# Altium schematic symbol library MX34040NF2.SchLib: 1 symbol
Pins are listed as number, name and electrical type; pins without a type are passive.

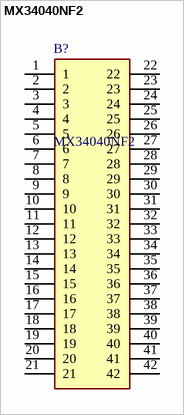
[diagram p0: symbol MX34040NF2]

## MX34040NF2
designator B?
Compact non-waterproof automotive connector, High-density, ECU, switches, and sensors, 40 pos. Right angle Pin header; Manufacturer_Name: JAE; Geometry.Height: 15mm; Mouser Part Number: 656-MX34040NF2; Mouser Price/Stock: https://www.mouser.co.uk/ProductDetail/JAE-Electronics/MX34040NF2?qs=e1Y2jJE%2FU%252BvJVmbSaTO13w%3D%3D; Manufacturer_Part_Number: MX34040NF2; Datasheet Link: https://www.jae.com/direct/topics/topics_file_download/topics_id=64950&ext_no=06&_lang=en&v=
footprint MX34040NF2
pins: 1, 2, 3, 4, 5, 6, 7, 8, 9, 10, 11, 12, 13, 14, 15, 16, 17, 18, 19, 20, 21, 22, 23, 24, 25, 26, 27, 28, 29, 30, 31, 32, 33, 34, 35, 36, 37, 38, 39, 40, 41, 42